# EAGLE library part TFT_2P0_240X320 (library TFT_2P0_240x320v1)
2.0 inch 240x320 TFT
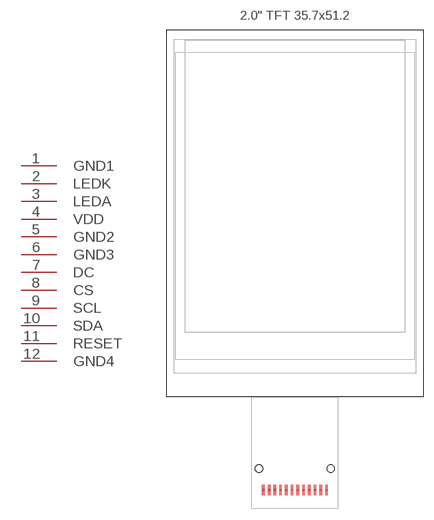
[diagram p0: symbol with the pads of TFT_2P0_240X320; footprint TFT_2P0_240X320]

Designator prefix DISP

## TFT_2P0_240X320  [TFT_2P0_240X320]
1  GND1  pas
2  LEDK  pas
3  LEDA  pas
4  VDD  pas
5  GND2  pas
6  GND3  pas
7  DC  pas
8  CS  pas
9  SCL  pas
10  SDA  pas
11  RESET  pas
12  GND4  pas

## Footprint TFT_2P0_240X320 (pad centres in mm)
2.0" TFT 240xRGBx320, 35.7x51.2mm, AA 30.6x40.8, 12-pin FPC 0.8mm
smd 0.4 x 1.5: 1 4.4,-41.36; 2 3.6,-41.36; 3 2.8,-41.36; 4 2,-41.36; 5 1.2,-41.36; 6 0.4,-41.36; 7 -0.4,-41.36; 8 -1.2,-41.36; 9 -2,-41.36; 10 -2.8,-41.36; 11 -3.6,-41.36; 12 -4.4,-41.36
hole 1 at -5,-38.36
hole 1 at 5,-38.36